# Altium schematic symbol library SRN8040-100M.SchLib: 1 symbol
Pins are listed as number, name and electrical type; pins without a type are passive.

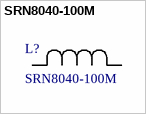
[diagram p0: symbol SRN8040-100M]

## SRN8040-100M
designator L?
Description; Manufacturer_Name: Bourns Electronics; Copyright: Copyright (C) 2025 Ultra Librarian. All rights reserved.; Manufacturer_Part_Number: SRN8040-100M
pins: 1, 2